# EAGLE library part PCA9533 (library rgb-led)
PCA9533D/01: LED driver and dimmer 4 channel, PWM @ 8 bit resolution 25mA / channel sink external resistors per LED I2C protocol @ 400kHz (fast) digikey: 568-3372-5-ND, 8-SOIC, $1.92
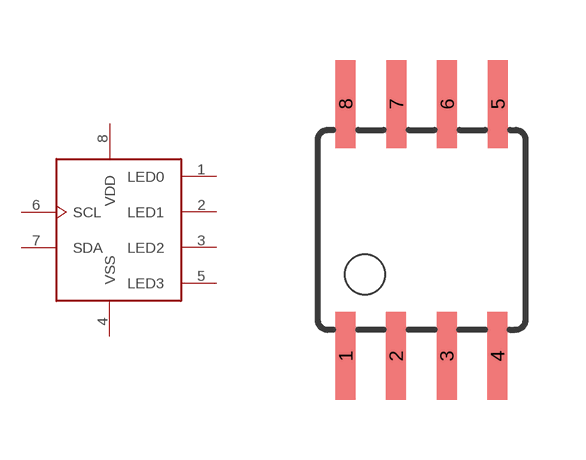
[diagram p0: symbol with the pads of SOIC8; footprint SOIC8]

Designator prefix -

## PCA9533  [SOIC8]
1  LED0
2  LED1
3  LED2
4  VSS  pwr
5  LED3
6  SCL  in
7  SDA
8  VDD  pwr

## Footprint SOIC8 (pad centres in mm)
Wide Plastic Gull Wing Small Outline Package
smd 0.5 x 2.2: 1 -1.905,-3.154; 2 -0.645,-3.154; 3 0.625,-3.154; 4 1.895,-3.154; 5 1.905,3.154; 6 0.635,3.154; 7 -0.635,3.154; 8 -1.905,3.154